# Altium footprint library PCB_General.PcbLib: 58 footprints (part 1 of 4)
Each footprint in its own frame and in the unit in brackets; x right, y up, seen from the top. Pads: shape width x height; smd on the part's side, far side on the other; paste and mask are expansions set on the pad; w line width, h text height; cw(c..) or ccw(c..) is an arc to the next point about the centre after c.
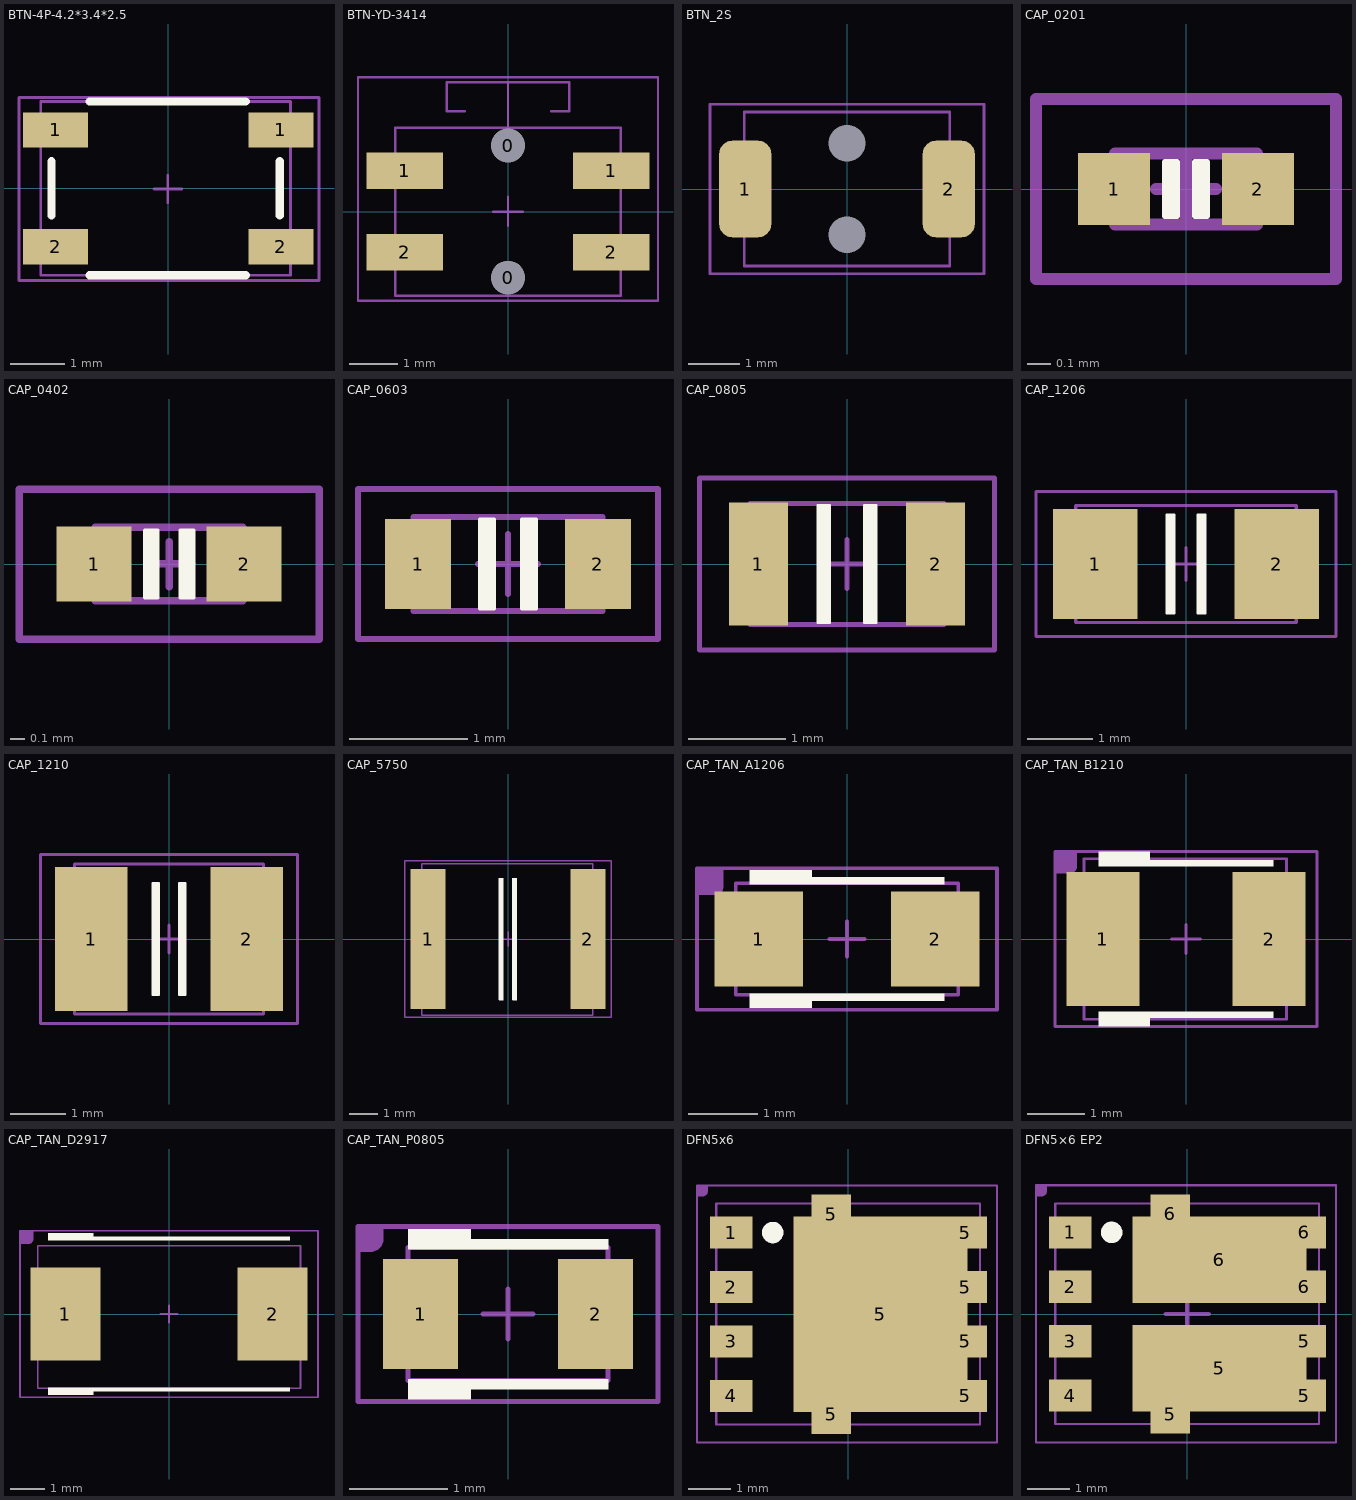
[diagram p0: the footprints below, top view; thin cyan lines are the x and y axes]

## BTN-4P-4.2*3.4*2.5 [mm] "SKRPABE010"
pads (4):
  rect 1.2x0.65 smd: 1(-2.075,1.075) 1(2.075,1.075) 2(-2.075,-1.075) 2(2.075,-1.075)
Top Overlay:
  lines w0.152: -2.15,-0.5 -2.15,0.5 ; -1.45,-1.6 1.425,-1.6 ; -1.45,1.6 1.425,1.6 ; 2.05,-0.5 2.05,0.5
Top Assembly (Mech13):
  lines w0.051: -0.263,-0.011 0.245,-0.011 ; -0.009,-0.265 -0.009,0.243 ; -2.35,-1.6 2.25,-1.6 2.25,1.6 -2.35,1.6 -2.35,-1.6
Top Component:
  lines w0.051: -2.75,-1.7 2.775,-1.7 2.775,1.675 -2.75,1.675 -2.75,-1.7
  text ".Designator" at -1.143,-0.381 h1.52
3D body "SKRPABE010.STEP": height 2.5, standoff 0, extent -2.35,-1.6 2.25,1.6

## BTN-YD-3414 [mm]
pads (6):
  round 0.7 hole 0.7 mask+0: 0(0,-1.375) 0(0,1.375)
  rect 1.6x0.762 smd: 1(-2.15,0.85) 1(2.15,0.85) 2(-2.15,-0.85) 2(2.15,-0.85)
Top Assembly (Mech13):
  lines w0.051: -0.899,2.089 -1.28,2.089 -1.28,2.689 1.28,2.689 1.28,2.089 0.899,2.089 ; -0.305,0 0.305,0 ; 0,-0.293 0,0.305 ; 0,1.739 0,2.689 ; -2.35,-1.75 2.35,-1.75 2.35,1.75 -2.35,1.75 -2.35,-1.75
Top Component:
  lines w0.051: -3.124,-1.854 3.124,-1.854 3.124,2.794 -3.124,2.794 -3.124,-1.854
  text ".Designator" at -1.143,-0.381 h1.52
3D body "User Library-KMS231G.STEP": height 1.42, standoff -0.02, extent -2.339,-1.775 2.261,1.775

## BTN_2S [mil]
height 78.74
pads (4):
  round 0 hole 28: 0(0,-35) 0(0,35)
  rrect50% 40x74 smd: 1(-78,0) 2(78,0)
Top Assembly (Mech13):
  lines w2: -78.73,-59.05 78.75,-59.05 78.75,59.06 -78.74,59.06 -78.74,-59.06
Top Component:
  lines w2: -105,-65 -105,65 105,65 105,-65 -105,-65
  text ".Designator" at -45,-15 h60
3D body "20041.stp": height 62.99, standoff 0, extent -78.73,-49.2 78.75,49.22

## CAP_0201 [mil]
height 15.75
pads (2):
  rect 12x12 smd: 1(-12,0) 2(12,0)
Top Overlay:
  region: -3.5,-4.5 -3.5,4.5 -1.5,4.5 -1.5,-4.5
  region: 3.5,4.5 3.5,-4.5 1.5,-4.5 1.5,4.5
  lines w1: -3.5,-4.5 -1.5,-4.5 -1.5,4.5 -3.5,4.5 -3.5,-4.5 ; 1.5,-4.5 1.5,4.5 3.5,4.5 3.5,-4.5 1.5,-4.5
Top Assembly (Mech13):
  lines w2: -5,0 5,0 ; 0,-5 0,5 ; -11.81,-5.91 -11.81,5.91 11.81,5.91 11.81,-5.91 -11.81,-5.91
Top Component:
  lines w2: -25,-15 -25,15 25,15 25,-15 -25,-15
  text ".Designator" at -20,-10 h30
3D body "CAPC0603X03L.step": height 11.81, standoff 0, extent -11.81,-5.9 11.81,5.91

## CAP_0402 [mil]
height 21.65
pads (2):
  rect 20x20 smd: 1(-20,0) 2(20,0)
Top Overlay:
  region: -6.5,9 -3,9 -3,-9 -6.5,-9
  region: 6.5,-9 3,-9 3,9 6.5,9
  lines w1: -6.5,-9 -3,-9 -3,9 -6.5,9 -6.5,-9 ; 3,-9 3,9 6.5,9 6.5,-9 3,-9
Top Assembly (Mech13):
  lines w2: -6,0 6,0 ; 0,-6 0,6 ; -19.69,-9.84 -19.69,9.84 19.68,9.84 19.68,-9.84 -19.69,-9.84
Top Component:
  lines w2: -40,-20 -40,20 40,20 40,-20 -40,-20
  text ".Designator" at -35,-10 h40
3D body "CAPC1005X05L.step": height 19.68, standoff 0, extent -19.68,-9.84 19.69,9.85

## CAP_0603 [mil]
height 31.5
pads (2):
  rect 22x30 smd: 1(-30,0) 2(30,0)
Top Overlay:
  region: 4.5,-15 9.5,-15 9.5,15 4.5,15
  region: -4.5,15 -9.5,15 -9.5,-15 -4.5,-15
  lines w1: -9.5,-15 -4.5,-15 -4.5,15 -9.5,15 -9.5,-15 ; 4.5,-15 4.5,15 9.5,15 9.5,-15 4.5,-15
Top Assembly (Mech13):
  lines w2: -10,0 10,0 ; 0,-10 0,10 ; -31.5,-15.75 31.5,-15.75 31.5,15.75 -31.5,15.75 -31.5,-15.75
Top Component:
  lines w2: -50,-25 50,-25 50,25 -50,25 -50,-25
  text ".Designator" at -45,-15 h60
3D body "CAPC1608X08L.step": height 31.5, standoff 0, extent -31.49,-15.74 31.5,15.75

## CAP_0805 [mil]
height 47.24
pads (2):
  rect 24x50 smd: 1(-36,0) 2(36,0)
Top Overlay:
  region: 12,-24 7,-24 7,24 12,24
  region: -12,24 -7,24 -7,-24 -12,-24
  lines w1: -12,-24 -12,24 -7,24 -7,-24 -12,-24 ; 7,-24 12,-24 12,24 7,24 7,-24
Top Assembly (Mech13):
  lines w2: -10,0 10,0 ; 0,-10 0,10 ; -39.37,-24.61 39.37,-24.61 39.37,24.61 -39.37,24.61 -39.37,-24.61
Top Component:
  lines w2: -60,-35 60,-35 60,35 -60,35 -60,-35
  text ".Designator" at -50,-20 h80
3D body "CAPC2012X10L.step": height 39.37, standoff 0, extent -39.37,-24.6 39.37,24.61

## CAP_1206 [mm]
height 1.23
pads (2):
  rect 1.3x1.7 smd: 1(-1.4,0) 2(1.4,0)
Top Overlay:
  region: -0.305,0.762 -0.178,0.762 -0.178,-0.762 -0.305,-0.762
  region: 0.305,-0.762 0.178,-0.762 0.178,0.762 0.305,0.762
  lines w0.025: -0.305,-0.762 -0.305,0.762 -0.178,0.762 -0.178,-0.762 -0.305,-0.762 ; 0.178,-0.762 0.178,0.762 0.305,0.762 0.305,-0.762 0.178,-0.762
Top Assembly (Mech13):
  lines w0.051: -0.254,0 0.254,0 ; 0,-0.254 0,0.254 ; -1.7,-0.9 -1.7,0.9 1.7,0.9 1.7,-0.9 -1.7,-0.9
Top Component:
  lines w0.051: -2.311,-1.118 -2.311,1.118 2.311,1.118 2.311,-1.118 -2.311,-1.118
  text ".Designator" at -1.651,-0.635 h2.03
3D body "1206-CAP.step": height 0.5, standoff 0, extent -1.7,-0.9 1.7,0.9

## CAP_1210 [mm]
height 1.5
pads (2):
  rect 1.3x2.6 smd: 1(-1.4,0) 2(1.4,0)
Top Overlay:
  region: -0.305,1.016 -0.178,1.016 -0.178,-1.016 -0.305,-1.016
  region: 0.305,-1.016 0.178,-1.016 0.178,1.016 0.305,1.016
  lines w0.025: -0.305,-1.016 -0.178,-1.016 -0.178,1.016 -0.305,1.016 -0.305,-1.016 ; 0.178,-1.016 0.178,1.016 0.305,1.016 0.305,-1.016 0.178,-1.016
Top Assembly (Mech13):
  lines w0.051: -0.254,0 0.254,0 ; 0,-0.254 0,0.254 ; -1.7,-1.35 -1.7,1.35 1.7,1.35 1.7,-1.35 -1.7,-1.35
Top Component:
  lines w0.051: -2.311,-1.524 -2.311,1.524 2.311,1.524 2.311,-1.524 -2.311,-1.524
  text ".Designator" at -1.651,-0.508 h2.03
3D body "1210-CAP.step": height 1.5, standoff 0, extent -1.7,-1.35 1.7,1.35

## CAP_5750 [mm]
pads (2):
  rect 1.25x5 smd mask+0: 1(-2.85,0) 2(2.85,0)
Top Overlay:
  region: -0.305,2.159 -0.178,2.159 -0.178,-2.159 -0.305,-2.159
  region: 0.305,-2.159 0.178,-2.159 0.178,2.159 0.305,2.159
  lines w0.025: -0.305,-2.159 -0.178,-2.159 -0.178,2.159 -0.305,2.159 -0.305,-2.159 ; 0.178,-2.159 0.178,2.159 0.305,2.159 0.305,-2.159 0.178,-2.159
Top Assembly (Mech13):
  lines w0.051: -0.254,0 0.254,0 ; 0,-0.254 0,0.254 ; -3.076,-2.718 3.024,-2.718 3.024,2.682 -3.076,2.682 -3.076,-2.718
Top Component:
  lines w0.051: -3.683,-2.794 3.683,-2.794 3.683,2.794 -3.683,2.794 -3.683,-2.794
  text ".Designator" at -1.778,-0.508 h2.03
3D body "CAP-2220.stp": height 2.74, standoff 0.04, extent -3.076,-2.718 3.024,2.682

## CAP_TAN_A1206 [mil]
height 70.87
pads (2):
  rect 50x54 smd: 1(-50,0) 2(50,0)
Top Overlay:
  region: 55,31 -55,31 -55,39 -20,39 -20,35 55,35
  region: 55,-35 -20,-35 -20,-39 -55,-39 -55,-31 55,-31
Top Assembly (Mech13):
  lines w2: -10,0 10,0 ; 0,-10 0,10 ; -62.99,-31.5 -62.99,31.5 63,31.5 63,-31.5 -62.99,-31.5
Top Component:
  region: -85,40 -70,40 -70,30 -70,29.01 -70.76,27.17 -72.17,25.76 -74.01,25 -75,25 -85,25
  lines w2: -85,-40 -85,40 85,40 85,-40 -85,-40
  text ".Designator" at -75,-20 h80
3D body "CAPMP3216X180N.STEP": height 70.87, standoff 0, extent -62.99,-31.49 63,31.5

## CAP_TAN_B1210 [mil]
height 82.68
pads (2):
  rect 50x92 smd: 1(-57,0) 2(57,0)
Top Overlay:
  region: 60,-54 -25,-54 -25,-60 -60,-60 -60,-50 60,-50
  region: 60,50 -60,50 -60,60 -25,60 -25,54 60,54
Top Assembly (Mech13):
  lines w2: -10,0 10,0 ; 0,-10 0,10 ; -70,-55.11 68.91,-55.11 68.91,55.12 -70,55.12 -70,-55.11
Top Component:
  region: -90,60 -75,60 -75,50 -75,49.01 -75.76,47.17 -77.17,45.76 -79.01,45 -80,45 -90,45
  lines w2: -90,-60 -90,60 90,60 90,-60 -90,-60
  text ".Designator" at -70,-20 h80
3D body "CAPMP3528X210N.STEP": height 82.68, standoff 0, extent -68.89,-55.11 68.91,55.13

## CAP_TAN_D2917 [mil]
height 122.05
pads (2):
  rect 80x106 smd: 1(-118,0) 2(118,0)
Top Overlay:
  region: 137.8,84 -137.8,84 -137.8,92 -86.61,92 -86.61,88 137.8,88
  region: 137.8,-88 -86.61,-88 -86.61,-92 -137.8,-92 -137.8,-84 137.8,-84
Top Assembly (Mech13):
  lines w2: -10,0 10,0 ; 0,-10 0,10 ; -149.6,-84.65 -149.6,77.76 150,77.76 150,-84.65 -149.6,-84.65
Top Component:
  region: -170,95 -155,95 -155,85 -155,84.01 -155.76,82.17 -157.17,80.76 -159.01,80 -160,80 -170,80
  lines w2: -170,-95 -170,95 170,95 170,-95 -170,-95
  text ".Designator" at -75,-20 h80
3D body "CAPMP7343X310N.STEP": height 122.05, standoff 0, extent -149.6,-77.75 149.61,77.76

## CAP_TAN_P0805 [mil]
height 59.06
pads (2):
  rect 30x44 smd: 1(-35,0) 2(35,0)
Top Overlay:
  region: 40,-30 -15,-30 -15,-34 -40,-34 -40,-26 40,-26
  region: 40,26 -40,26 -40,34 -15,34 -15,30 40,30
Top Assembly (Mech13):
  lines w2: -10,0 10,0 ; 0,-10 0,10 ; -40,-26.57 40,-26.57 40,26.57 -40,26.57 -40,-26.57
Top Component:
  region: -60,35 -50,35 -50,30 -50,29.01 -50.76,27.17 -52.17,25.76 -54.01,25 -55,25 -60,25
  lines w2: -60,-35 -60,35 60,35 60,-35 -60,-35
  text ".Designator" at -55,-20 h80
3D body "CAPMP2012X150N.STEP": height 59.06, standoff 0, extent -40.35,-26.57 40.36,26.58

## DFN5x6 [mm]
pads (11):
  rect 1x0.75 smd: 1(-2.73,1.905) 2(-2.73,0.635) 3(-2.73,-0.635) 4(-2.73,-1.905) 5(2.73,-1.905) 5(2.73,-0.635) 5(2.73,0.635) 5(2.73,1.905)
  rect 0.92x0.905 smd: 5(-0.394,-2.337) 5(-0.394,2.337)
  rect 4.055x4.56 smd: 5(0.749,0)
Top Overlay:
  circle w0.25: c-1.765,1.905 r0.125
Top Assembly (Mech13):
  lines w0.051: -0.254,0 0.254,0 ; 0,-0.254 0,0.254 ; -3.08,-2.57 -3.08,2.58 3.07,2.58 3.07,-2.57 -3.08,-2.57
Top Component:
  region: -3.531,3.005 -3.277,3.005 -3.277,2.878 -3.277,2.853 -3.296,2.806 -3.332,2.77 -3.378,2.751 -3.404,2.751 -3.531,2.751
  lines w0.051: -3.531,-2.995 3.47,-2.995 3.47,3.005 -3.531,3.005 -3.531,-2.995
  text ".Designator" at -2.159,-0.508 h2.03
3D body "DFN5x6_SO8FL.STEP": height 1.12, standoff -0.01, extent -3.08,-2.57 3.07,2.58

## DFN5×6 EP2 [mm]
pads (12):
  rect 1x0.75 smd: 1(-2.73,1.905) 2(-2.73,0.635) 3(-2.73,-0.635) 4(-2.73,-1.905) 5(2.73,-1.905) 5(2.73,-0.635) 6(2.73,0.635) 6(2.73,1.905)
  rect 0.92x0.905 smd: 5(-0.394,-2.337) 6(-0.394,2.337)
  rect 4.055x2.02 smd: 5(0.749,-1.27) 6(0.749,1.27)
Top Overlay:
  circle w0.25: c-1.765,1.905 r0.125
Top Assembly (Mech13):
  lines w0.051: -0.254,0 0.254,0 ; 0,-0.254 0,0.254 ; -3.08,-2.57 -3.08,2.58 3.07,2.58 3.07,-2.57 -3.08,-2.57
  lines w0.1: -0.5,0 0.5,0 ; 0,-0.5 0,0.5
Top Component:
  region: -3.531,3.005 -3.277,3.005 -3.277,2.878 -3.277,2.853 -3.296,2.806 -3.332,2.77 -3.378,2.751 -3.404,2.751 -3.531,2.751
  lines w0.051: -3.531,-2.995 3.47,-2.995 3.47,3.005 -3.531,3.005 -3.531,-2.995
  text ".Designator" at -2.159,-0.508 h2.03
3D body "DFN5x6_SO8FL.STEP": height 1.12, standoff -0.01, extent -3.08,-2.57 3.07,2.58